# Altium footprint library NanoPi-NEO.PcbLib: 1 footprints
Each footprint in its own frame and in the unit in brackets; x right, y up, seen from the top. Pads: shape width x height; smd on the part's side, far side on the other; paste and mask are expansions set on the pad; w line width, h text height; cw(c..) or ccw(c..) is an arc to the next point about the centre after c.
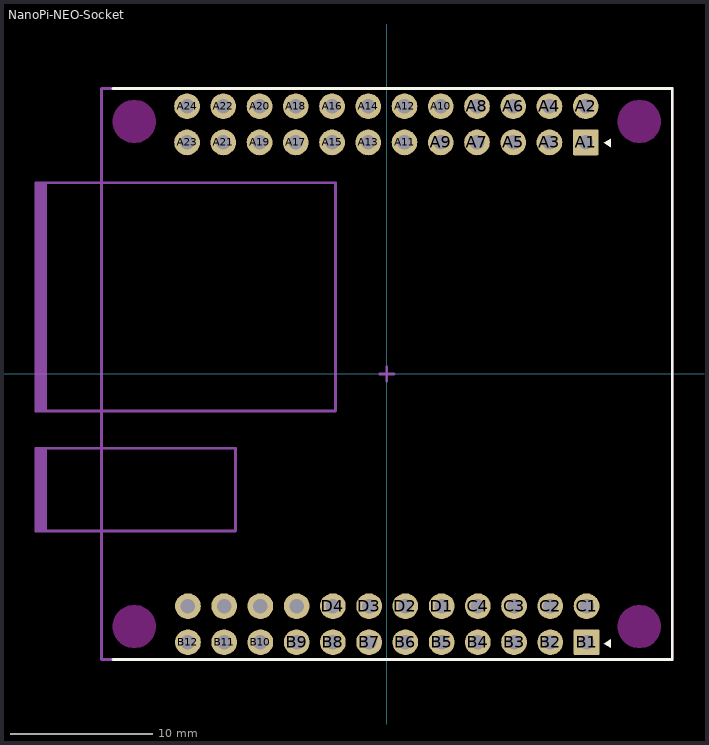
[diagram p0: the footprint, top view; thin cyan lines are the x and y axes]

## NanoPi-NEO-Socket [mm]
pads (48):
  rrect10% 1.8x1.8 hole 1.02: A1(13.94,16.23) B1(14,-18.8)
  round 1.8 hole 1.02: A2(13.94,18.761) A3(11.4,16.23) A4(11.4,18.761) A5(8.86,16.23) A6(8.86,18.761) A7(6.32,16.23) A8(6.32,18.761) A9(3.78,16.23) A10(3.78,18.761) A11(1.24,16.23) A12(1.24,18.761) A13(-1.3,16.23) A14(-1.3,18.761) A15(-3.84,16.23) A16(-3.84,18.761) A17(-6.38,16.23) A18(-6.38,18.761) A19(-8.92,16.23) A20(-8.92,18.761) A21(-11.46,16.23) A22(-11.46,18.761) A23(-14,16.23) A24(-14,18.761) B2(11.46,-18.8) B3(8.92,-18.8) B4(6.38,-18.8) B5(3.84,-18.8) B6(1.3,-18.8) B7(-1.24,-18.8) B8(-3.78,-18.8) B9(-6.32,-18.8) B10(-8.86,-18.8) B11(-11.4,-18.8) B12(-13.94,-18.8) C1(14,-16.269) C2(11.46,-16.269) C3(8.92,-16.269) C4(6.38,-16.269) D1(3.84,-16.269) D2(1.3,-16.269) D3(-1.24,-16.269) D4(-3.78,-16.269) ""(-13.94,-16.269) ""(-11.4,-16.269) ""(-8.86,-16.269) ""(-6.32,-16.269)
Top Overlay:
  region: 15.2,-18.9 15.7,-19.2 15.7,-18.6
  region: 15.2,16.2 15.7,15.9 15.7,16.5
  lines w0.2: -19.2,-20 20,-20 20,20 -19.2,20
Keep-Out Layer:
  board cut-out: -17.7,16.2 -17.848,16.2 -18.138,16.258 -18.411,16.371 -18.656,16.535 -18.865,16.744 -19.029,16.989 -19.142,17.262 -19.2,17.552 -19.2,17.7 -19.2,17.848 -19.142,18.138 -19.029,18.411 -18.865,18.656 -18.656,18.865 -18.411,19.029 -18.138,19.142 -17.848,19.2 -17.7,19.2 -17.552,19.2 -17.262,19.142 -16.989,19.029 -16.744,18.865 -16.535,18.656 -16.371,18.411 -16.258,18.138 -16.2,17.848 -16.2,17.7 -16.2,17.552 -16.258,17.262 -16.371,16.989 -16.535,16.744 -16.744,16.535 -16.989,16.371 -17.262,16.258 -17.552,16.2
  board cut-out: -17.7,-19.2 -17.848,-19.2 -18.138,-19.142 -18.411,-19.029 -18.656,-18.865 -18.865,-18.656 -19.029,-18.411 -19.142,-18.138 -19.2,-17.848 -19.2,-17.7 -19.2,-17.552 -19.142,-17.262 -19.029,-16.989 -18.865,-16.744 -18.656,-16.535 -18.411,-16.371 -18.138,-16.258 -17.848,-16.2 -17.7,-16.2 -17.552,-16.2 -17.262,-16.258 -16.989,-16.371 -16.744,-16.535 -16.535,-16.744 -16.371,-16.989 -16.258,-17.262 -16.2,-17.552 -16.2,-17.7 -16.2,-17.848 -16.258,-18.138 -16.371,-18.411 -16.535,-18.656 -16.744,-18.865 -16.989,-19.029 -17.262,-19.142 -17.552,-19.2
  board cut-out: 16.2,-17.7 16.2,-17.848 16.258,-18.138 16.371,-18.411 16.535,-18.656 16.744,-18.865 16.989,-19.029 17.262,-19.142 17.552,-19.2 17.7,-19.2 17.848,-19.2 18.138,-19.142 18.411,-19.029 18.656,-18.865 18.865,-18.656 19.029,-18.411 19.142,-18.138 19.2,-17.848 19.2,-17.7 19.2,-17.552 19.142,-17.262 19.029,-16.989 18.865,-16.744 18.656,-16.535 18.411,-16.371 18.138,-16.258 17.848,-16.2 17.7,-16.2 17.552,-16.2 17.262,-16.258 16.989,-16.371 16.744,-16.535 16.535,-16.744 16.371,-16.989 16.258,-17.262 16.2,-17.552
  board cut-out: 17.7,16.2 17.552,16.2 17.262,16.258 16.989,16.371 16.744,16.535 16.535,16.744 16.371,16.989 16.258,17.262 16.2,17.552 16.2,17.7 16.2,17.848 16.258,18.138 16.371,18.411 16.535,18.656 16.744,18.865 16.989,19.029 17.262,19.142 17.552,19.2 17.7,19.2 17.848,19.2 18.138,19.142 18.411,19.029 18.656,18.865 18.865,18.656 19.029,18.411 19.142,18.138 19.2,17.848 19.2,17.7 19.2,17.552 19.142,17.262 19.029,16.989 18.865,16.744 18.656,16.535 18.411,16.371 18.138,16.258 17.848,16.2
Top Courtyard:
  lines w0.1: -20,-20 20,-20 20,20 -20,20 -20,-20
  lines w0.2: -0.5,0 0.5,0 ; 0,-0.5 0,0.5
Top Assembly (Mech4):
  rectangle: -24.6,-11 -23.8,-5.2
  rectangle: -24.6,-2.6 -23.8,13.4
  lines w0.2: -24.6,-11 -10.6,-11 -10.6,-5.2 -24.6,-5.2 -24.6,-11 ; -24.6,-2.6 -3.6,-2.6 -3.6,13.4 -24.6,13.4 -24.6,-2.6 ; -20,-20 20,-20 20,20 -20,20 -20,-20